# Altium footprint library B105misc.PcbLib: 24 footprints (part 1 of 2)
Each footprint in its own frame and in the unit in brackets; x right, y up, seen from the top. Pads: shape width x height; smd on the part's side, far side on the other; paste and mask are expansions set on the pad; w line width, h text height; cw(c..) or ccw(c..) is an arc to the next point about the centre after c.
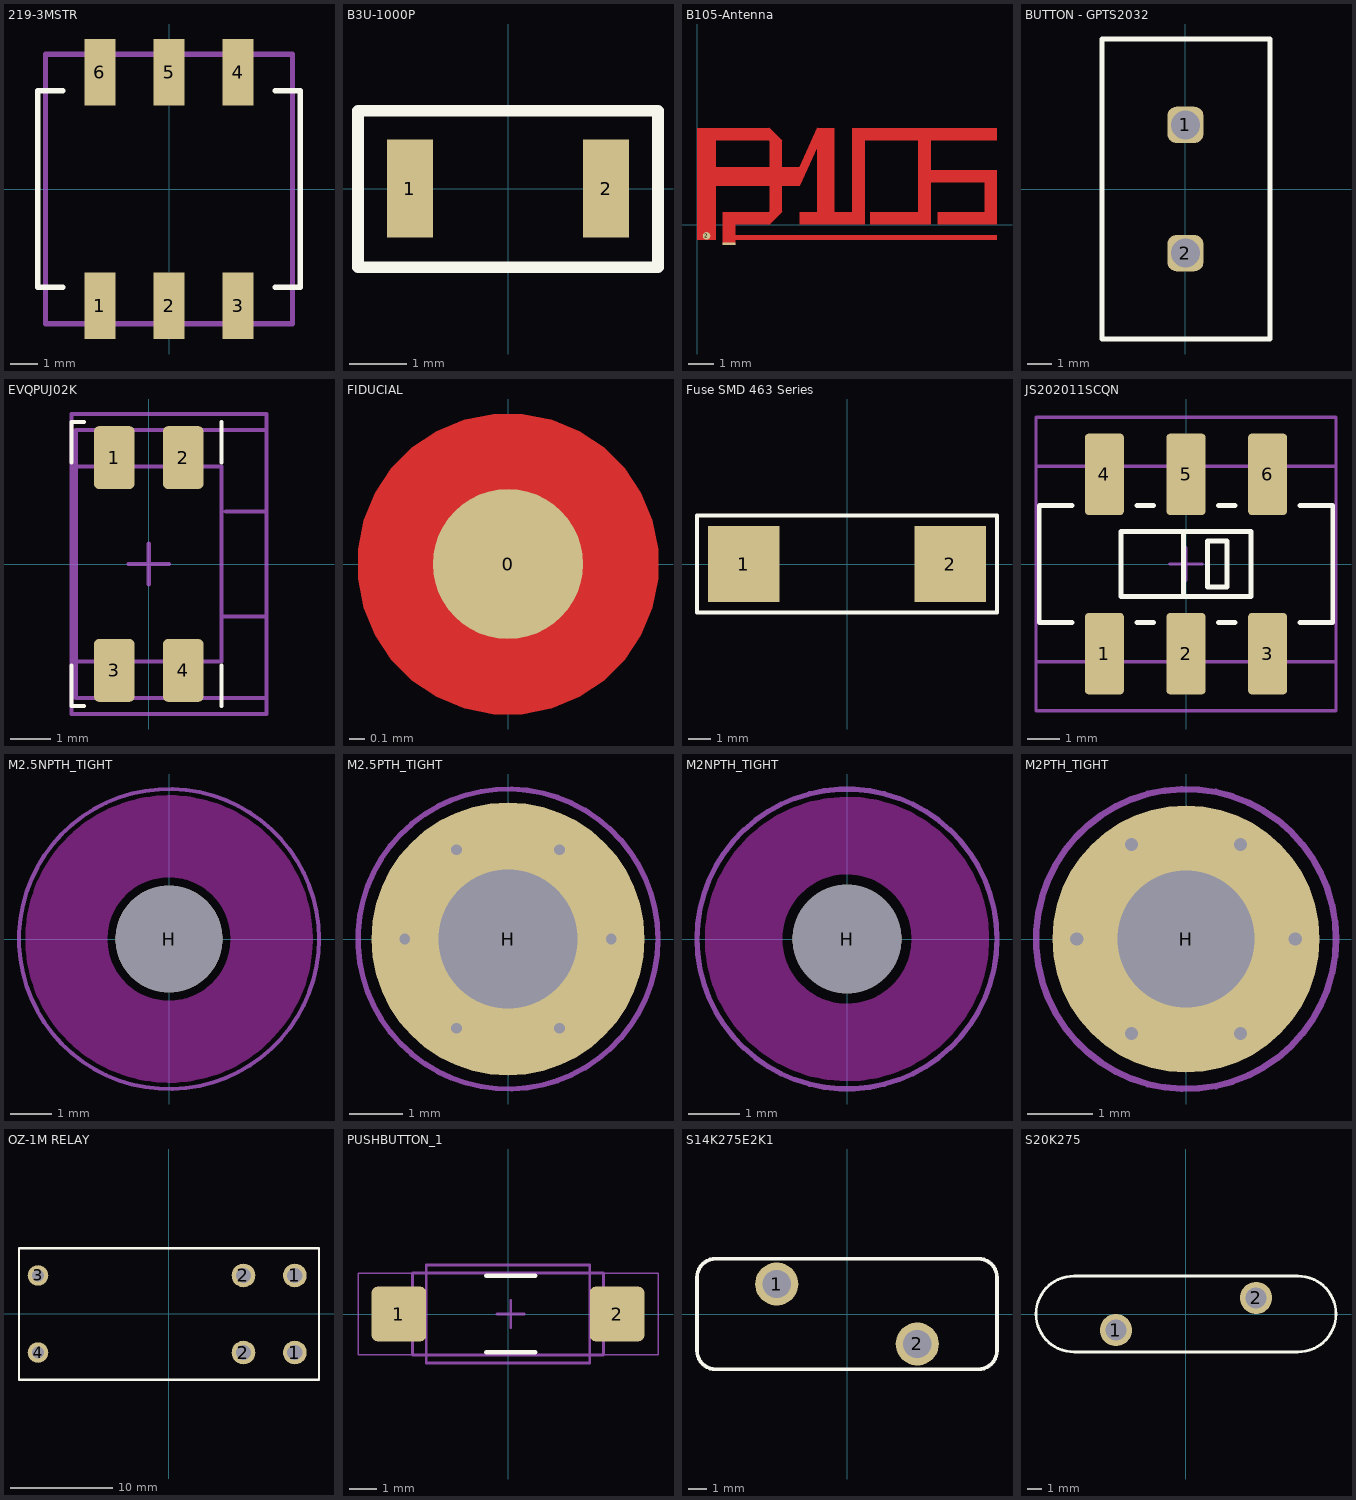
[diagram p0: the footprints below, top view; thin cyan lines are the x and y axes]

## 219-3MSTR [mm] "Dip Switch SPST 3 Position Surface Mount Slide (Standard) Actuator 100mA 20VDC"
height 3.8
pads (6):
  rect 1.13x2.44 smd: 1(-2.54,-4.3) 2(0,-4.3) 3(2.54,-4.3) 4(2.54,4.3) 5(0,4.3) 6(-2.54,4.3)
Top Overlay:
  lines w0.2: -3.9,-3.62 -4.825,-3.62 -4.825,3.62 -3.9,3.62 ; 3.9,-3.62 4.825,-3.62 4.825,3.62 3.9,3.62
Mechanical 13:
  lines w0.2: -4.545,-4.955 4.545,-4.955 4.545,4.955 -4.545,4.955 -4.545,-4.955
3D body "219-3poles.stp": height 4.28, standoff -0.02, extent -4.545,-4.955 4.545,4.955

## B3U-1000P [mm]
pads (2):
  rect 0.8x1.7 smd: 1(-1.7,0) 2(1.7,0)
Top Overlay:
  lines w0.2: -2.6,-1.36 -2.6,1.15 -2.6,1.35 2.6,1.35 2.6,-1.36 -2.6,-1.36
3D body "b3u-1000p.stp": height 1.6, standoff 0, extent -2,-1.25 2,1.25

## B105-Antenna [mm]
pads (2):
  rect 0.5x0.1 smd mask+0: 1(1.26,-0.75)
  round 0.3 all layers, no hole mask+0: 2(0.375,-0.445)
Top Layer:
  rectangle: 1.51,-0.6 11.8,-0.4
  rectangle: 1.01,-0.8 1.51,0
  rectangle: 0,-0.6 0.75,0
  rectangle: 9.465,0 11.3,0.5
  rectangle: 11.3,0 11.8,1.65
  rectangle: 9.2,1.65 11.8,2.15
  rectangle: 9.2,3.3 11.8,3.8
  rectangle: 6.81,0 8.7,0.5
  rectangle: 8.7,0 9.2,3.8
  rectangle: 6.6,3.3 8.7,3.8
  rectangle: 6.1,0 6.6,3.8
  rectangle: 5.41,0 6.1,0.5
  rectangle: 4.725,0 5.41,3.8
  rectangle: 4.035,0 4.725,0.5
  rectangle: 0,0 0.75,3.8
  rectangle: 0.75,3.3 2.85,3.8
  rectangle: 2.85,0.5 3.35,3.3
  rectangle: 1.01,0 2.85,0.5
  rectangle: 0.75,1.525 2.85,2.275
  rectangle: 3.35,1.525 4.035,2.275
  region: 4.035,2.275 4.725,3.8 4.725,3.05 4.035,1.525
  region: 2.85,0.5 3.35,0.5 2.85,0
  region: 2.85,3.3 3.35,3.3 2.85,3.8

## BUTTON - GPTS2032 [mm]
pads (2):
  rrect50% 1.5x1.5 hole 1.2: 1(0,2.65) 2(0,-2.65)
Top Overlay:
  lines w0.2: -3.45,-6.2 -3.45,6.2 3.5,6.2 3.5,-6.2 -3.45,-6.2
3D body: height 16, standoff 4, extent -3.25,-6 3.25,6
3D body: height 12.65, standoff 7.35, extent 3.25,-2.649 5.85,2.649
3D body: height 4, standoff -2, extent -0.5,2.15 0.5,3.15
3D body: height 4, standoff -2, extent -0.5,-3.15 0.5,-2.15

## EVQPUJ02K [mm]
pads (4):
  rrect25% 1x1.55 smd paste+0: 1(-0.85,2.625) 2(0.85,2.625) 3(-0.85,-2.625) 4(0.85,-2.625)
Top Overlay:
  lines w0.1: -1.9,-2.5 -1.9,-3.5 -1.6,-3.5 ; -1.9,2.5 -1.9,3.5 -1.6,3.5 ; 1.8,-3.5 1.8,-2.5 ; 1.8,2.5 1.8,3.5
Mechanical 5:
  lines w0.1: -1.8,-3.3 -1.8,3.3 2.9,3.3 2.9,-3.3 -1.8,-3.3
  text ".Designator" at 1.2,-1.5 h1.2
Mechanical 13:
  lines w0.1: 1.8,-1.3 2.9,-1.3 2.9,1.3 1.9,1.3 ; -1.8,-2.4 1.8,-2.4 1.8,2.4 -1.8,2.4 -1.8,-2.4
Mechanical 15:
  lines w0.1: -0.5,0 0.5,0 ; 0,-0.5 0,0.5 ; -1.9,-3.7 -1.9,3.7 2.9,3.7 2.9,-3.7 -1.9,-3.7
3D body "EVQPU-JA-02K.STEP": height 1.65, standoff 0, extent -1.79,-3.2 2.75,3.2

## FIDUCIAL [mm] "1mm inner diameter, 2mm outer diameter"
pads (1):
  round 1 smd paste-0.5 mask+0.5: 0(0,0)
Top Layer:
  pour cut-out: 0,-1 -0.098,-1 -0.292,-0.962 -0.474,-0.886 -0.637,-0.777 -0.777,-0.637 -0.886,-0.474 -0.962,-0.292 -1,-0.098 -1,0 -1,0.098 -0.962,0.292 -0.886,0.474 -0.777,0.637 -0.637,0.777 -0.474,0.886 -0.292,0.962 -0.098,1 0,1 0.098,1 0.292,0.962 0.474,0.886 0.637,0.777 0.777,0.637 0.886,0.474 0.962,0.292 1,0.098 1,0 1,-0.098 0.962,-0.292 0.886,-0.474 0.777,-0.637 0.637,-0.777 0.474,-0.886 0.292,-0.962 0.098,-1

## Fuse SMD 463 Series [mm]
pads (2):
  rect 3.25x3.43 smd: 1(-4.675,0) 2(4.675,0)
Top Overlay:
  lines w0.2: -6.8,-2.2 6.8,-2.2 6.8,2.2 -6.8,2.2 -6.8,-2.2
3D body "GenericFuseSMD.STEP": height 3.6, standoff 0, extent -5.5,-1.8 5.5,1.8

## JS202011SCQN [mm]
pads (6):
  rrect20% 1.2x2.5 smd: 1(-2.5,-2.75) 2(0,-2.75) 3(2.5,-2.75) 4(-2.5,2.75) 5(0,2.75) 6(2.5,2.75)
Top Overlay:
  lines w0.15: -4.5,-1.8 -3.5,-1.8 ; -4.5,1.8 -3.5,1.8 ; -1.5,-1.8 -1,-1.8 ; -1.5,1.8 -1,1.8 ; 1,-1.8 1.5,-1.8 ; 1,1.8 1.5,1.8 ; 3.5,-1.8 4.5,-1.8 ; 3.5,1.8 4.5,1.8
  lines w0.152: -4.5,-1.8 -4.5,1.8 ; -0.08,-1 -0.08,1 ; 1.24,0.7 0.66,0.7 0.66,-0.7 1.26,-0.7 1.26,0.7 ; 4.5,-1.8 4.5,1.8 ; -2,-1 2,-1 2,1 -2,1 -2,-1
Mechanical 5:
  lines w0.1: -4.6,-3 4.6,-3 4.6,3 -4.6,3 -4.6,-3
  text ".Designator" at 1.1,-2.6 h2
Mechanical 15:
  lines w0.1: -0.5,0 0.5,0 ; 0,-0.5 0,0.5 ; -4.6,-4.5 4.6,-4.5 4.6,4.5 -4.6,4.5 -4.6,-4.5
3D body: height 0.15, standoff 0, extent 2.2,1.8 2.8,3.75
3D body: height 0.15, standoff 0, extent 3.9,1.2 4.2,1.5
3D body: height 0.9, standoff 0, extent 2.2,1.675 2.8,1.825
3D body: height 3.5, standoff 3.48, extent 2,-1 4.5,1
3D body: height 5.5, standoff 1.75, extent -0.08,-1 2,1
3D body: height 0.15, standoff 0, extent -0.3,1.8 0.3,3.75
3D body: height 0.9, standoff 0, extent -0.3,1.675 0.3,1.825
3D body: height 3.5, standoff 2.63, extent 4.5,-1.2 4.52,1.2
3D body: height 2.63, standoff 1.75, extent 4.5,-1.7 4.52,1.7
3D body: height 3.48, standoff 3, extent 2,-1.8 4.5,1.8
3D body: height 0.15, standoff 0, extent 3.9,-1.5 4.2,-1.2
3D body: height 0.9, standoff 0, extent 2.2,-1.825 2.8,-1.675
3D body: height 0.9, standoff 0, extent -0.3,-1.825 0.3,-1.675
3D body: height 0.15, standoff 0, extent 2.2,-3.75 2.8,-1.8
3D body: height 0.15, standoff 0, extent -0.3,-3.75 0.3,-1.8
3D body: height 3.48, standoff 3, extent -2,1 2,1.8
3D body: height 3.5, standoff 3.48, extent -4.5,1 4.5,1.8
3D body: height 3.05, standoff 3, extent -2,-1 2,1
3D body: height 0.15, standoff 0, extent -2.8,1.8 -2.2,3.75
3D body: height 0.9, standoff 0, extent -2.8,1.675 -2.2,1.825
3D body: height 0.15, standoff 0, extent -4.2,1.2 -3.9,1.5
3D body: height 3.5, standoff 3.48, extent -4.5,-1 -2,1
3D body: height 3.5, standoff 2.63, extent -4.52,-1.2 -4.5,1.2
3D body: height 0.9, standoff 0.15, extent -4.3,-1.6 4.3,1.675
3D body: height 3, standoff 0.9, extent -4.5,-1.8 4.5,1.8
3D body: height 3.5, standoff 3.48, extent -4.5,-1.8 4.5,-1
3D body: height 3.48, standoff 3, extent -2,-1.8 2,-1
3D body: height 2.63, standoff 1.75, extent -4.52,-1.7 -4.5,1.7
3D body: height 3.48, standoff 3, extent -4.5,-1.8 -2,1.8
3D body: height 0.9, standoff 0, extent -2.8,-1.825 -2.2,-1.675
3D body: height 0.15, standoff 0, extent -2.8,-3.75 -2.2,-1.8
3D body: height 0.15, standoff 0, extent -4.2,-1.5 -3.9,-1.2

## M2.5NPTH_TIGHT [mm] "M2.5 non-plated tigh hole"
pads (1):
  round 2.6 hole 2.6 unplated: H(0,0)
Top Solder:
  circle w2.1: c0,0 r2.45
Bottom Solder:
  circle w2.1: c0,0 r2.45
Keep-Out Layer:
  circle w2: c0,0 r2.5
Mechanical 15:
  circle w0.1: c0,0 r3.65

## M2.5PTH_TIGHT [mm] "M2.5 plated tigh hole"
pads (1):
  round 5.1 hole 2.6: H(0,0)
via -0.962,-1.667 diameter 0.5 hole 0.2
via -1.925,0 diameter 0.5 hole 0.2
via -0.962,1.667 diameter 0.5 hole 0.2
via 0.962,-1.667 diameter 0.5 hole 0.2
via 0.962,1.667 diameter 0.5 hole 0.2
via 1.925,0 diameter 0.5 hole 0.2
Top Paste:
  circle w0.6: c-0.962,-1.667 r0.3
  circle w0.6: c0.962,-1.667 r0.3
  circle w0.6: c1.925,0 r0.3
  circle w0.6: c0.962,1.667 r0.3
  circle w0.6: c-0.962,1.667 r0.3
  circle w0.6: c-1.925,0 r0.3
Mechanical 15:
  circle w0.1: c0,0 r2.8

## M2NPTH_TIGHT [mm] "M2 non-plated tigh hole"
pads (1):
  round 2.1 hole 2.1 unplated: H(0,0)
Top Solder:
  circle w1.6: c0,0 r1.95
Bottom Solder:
  circle w1.6: c0,0 r1.95
Keep-Out Layer:
  circle w1.5: c0,0 r2
Mechanical 15:
  circle w0.1: c0,0 r2.9

## M2PTH_TIGHT [mm] "M2 plated tigh hole"
pads (1):
  round 4.1 hole 2.1: H(0,0)
via -0.838,1.451 diameter 0.5 hole 0.2
via 0.838,-1.451 diameter 0.5 hole 0.2
via 0.837,1.451 diameter 0.5 hole 0.2
via -0.837,-1.451 diameter 0.5 hole 0.2
via -1.675,0 diameter 0.5 hole 0.2
via 1.675,0 diameter 0.5 hole 0.2
Top Paste:
  circle w0.4: c-0.837,-1.451 r0.2
  circle w0.4: c0.838,-1.451 r0.2
  circle w0.4: c1.675,0 r0.2
  circle w0.4: c0.837,1.451 r0.2
  circle w0.4: c-0.838,1.451 r0.2
  circle w0.4: c-1.675,0 r0.2
Mechanical 15:
  circle w0.1: c0,0 r2.3

## OZ-1M RELAY [mm] "TE Connectivity OZ-1M Relays"
height 20.6
pads (6):
  round 2.3 hole 1.5: 1(12.25,-3.75) 1(12.25,3.75) 2(7.25,-3.75) 2(7.25,3.75)
  round 2 hole 1.2: 3(-12.75,3.75) 4(-12.75,-3.75)
Top Overlay:
  lines w0.2: -14.6,-6.4 -14.6,6.4 14.6,6.4 14.6,-6.4 -14.6,-6.4
3D body "OZ-1M RELAY.stp": height 20.4, standoff -4.2, extent -14.6,-6.4 14.6,6.4

## PUSHBUTTON_1 [mm]
pads (2):
  rrect20% 2x2 smd: 1(-4,0) 2(4,0)
Top Overlay:
  lines w0.17: -0.8,-1.4 1,-1.4 ; -0.8,1.4 1,1.4
Mechanical 5:
  lines w0.1: -3.5,-1.5 -3.5,1.5 3.5,1.5 3.5,-1.5 -3.5,-1.5
  text ".Designator" at -0.9,-0.4 h0.9
Mechanical 13:
  lines w0.1: -3,-1.8 3,-1.8 3,1.8 -3,1.8 -3,-1.8
Mechanical 15:
  lines w0.05: -5.5,-1.5 5.5,-1.5 5.5,1.5 -5.5,1.5 -5.5,-1.5
  lines w0.1: -0.4,0 0.6,0 ; 0.1,-0.5 0.1,0.5
3D body "User Library-SWT-39.step": height 2.5, standoff 0, extent -4,-1.85 4,1.85

## S14K275E2K1 [mm] "Varistor 430V 6kA Disc 14mm EPCOS (TDK)"
height 20
pads (2):
  round 2.3 hole 1.5: 1(-3.75,1.6) 2(3.75,-1.6)
Top Overlay:
  lines w0.2: -8,-1.95 ccw(c-7,-1.95) -7,-2.95 7,-2.95 ccw(c7,-1.95) 8,-1.95 8,1.95 ccw(c7,1.95) 7,2.95 -7,2.95 ccw(c-7,1.95) -8,1.95 -8,-1.95
3D body "S14K275E2K1-Varistor_14mm.STEP": height 19, standoff -24, extent -8,-2.75 8,2.75

## S20K275 [mm] "Varistor 430V 8kA Disc 20mm EPCOS (TDK)"
height 25.5
pads (2):
  round 2.3 hole 1.5: 1(-5,-1.15) 2(5,1.15)
Top Overlay:
  lines w0.2: -8,-2.7 cw(c-8,0) -8,2.7 8,2.7 cw(c8,0) 8,-2.7 -8,-2.7
3D body "S20K275_Varistor_20mm.STEP": height 23.75, standoff -7.5, extent -10.756,-2.61 10.744,2.6